# EAGLE library part MAX197 (library ic)
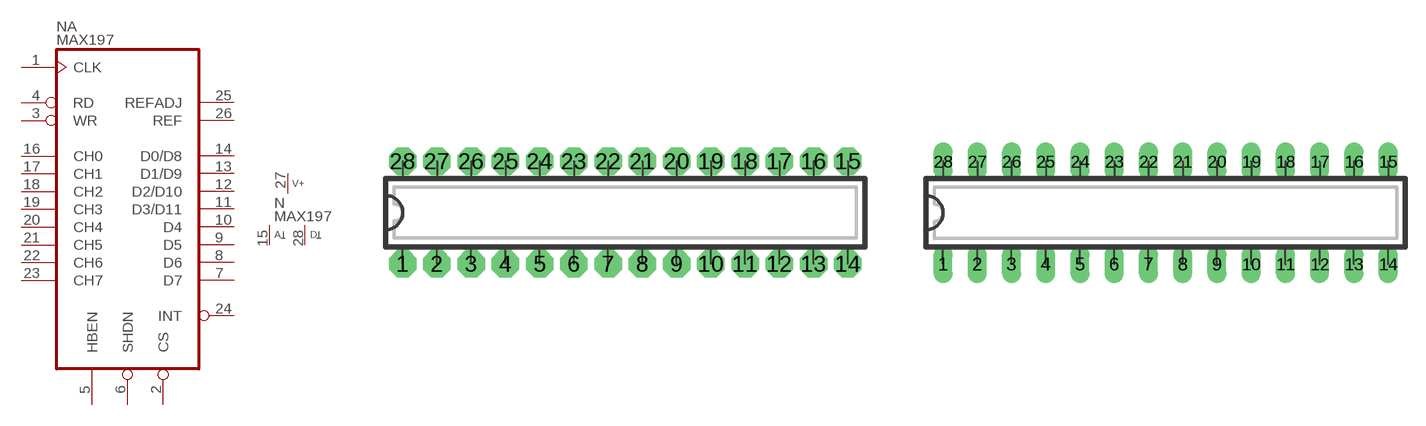
[diagram p39: symbol with the pads of DIP28N; footprints DIP28N, DIP28L]

Designator prefix N; gates A=MAX197 P=V+2GND2

## MAX197N  [DIP28N]
1  A:CLK  in
2  A:CS  in
3  A:WR  in
4  A:RD  in
5  A:HBEN  in
6  A:SHDN  in
7  A:D7  hiz
8  A:D6  hiz
9  A:D5  hiz
10  A:D4  hiz
11  A:D3/D11  hiz
12  A:D2/D10  hiz
13  A:D1/D9  hiz
14  A:D0/D8  hiz
15  P:AGND  pwr
16  A:CH0  in
17  A:CH1  in
18  A:CH2  in
19  A:CH3  in
20  A:CH4  in
21  A:CH5  in
22  A:CH6  in
23  A:CH7  in
24  A:INT  out
25  A:REFADJ  in
26  A:REF  out
27  P:V+  pwr
28  P:DGND  pwr

## MAX197  [DIP28L]
Pads as for DIP28N

## MAX197L  [DIP28L]
Pads as for DIP28N

## MAX197R  [DIP28R]
Pads as for DIP28N

## Footprint DIP28N (pad centres in mm)
DIP-28 IC package, 28 pins, 0.3" width
drill 0.813 pad 2.032 octagon: 1 -16.51,-3.81; 2 -13.97,-3.81; 3 -11.43,-3.81; 4 -8.89,-3.81; 5 -6.35,-3.81; 6 -3.81,-3.81; 7 -1.27,-3.81; 8 1.27,-3.81; 9 3.81,-3.81; 10 6.35,-3.81; 11 8.89,-3.81; 12 11.43,-3.81; 13 13.97,-3.81; 14 16.51,-3.81; 15 16.51,3.81; 16 13.97,3.81; 17 11.43,3.81; 18 8.89,3.81; 19 6.35,3.81; 20 3.81,3.81; 21 1.27,3.81; 22 -1.27,3.81; 23 -3.81,3.81; 24 -6.35,3.81; 25 -8.89,3.81; 26 -11.43,3.81; 27 -13.97,3.81; 28 -16.51,3.81

## Footprint DIP28L (pad centres in mm)
DIP-28, long pads IC package, 28 pins, 0.3" width
drill 0.813 pad 1.397 long: 1 -16.51,-3.81; 2 -13.97,-3.81; 3 -11.43,-3.81; 4 -8.89,-3.81; 5 -6.35,-3.81; 6 -3.81,-3.81; 7 -1.27,-3.81; 8 1.27,-3.81; 9 3.81,-3.81; 10 6.35,-3.81; 11 8.89,-3.81; 12 11.43,-3.81; 13 13.97,-3.81; 14 16.51,-3.81; 15 16.51,3.81; 16 13.97,3.81; 17 11.43,3.81; 18 8.89,3.81; 19 6.35,3.81; 20 3.81,3.81; 21 1.27,3.81; 22 -1.27,3.81; 23 -3.81,3.81; 24 -6.35,3.81; 25 -8.89,3.81; 26 -11.43,3.81; 27 -13.97,3.81; 28 -16.51,3.81

## Footprint DIP28R (pad centres in mm)
DIP-28, reduced pads IC package, 28 pins, 0.3" width
drill 0.813 pad 1.397 square: 1 -16.51,-3.81; 2 -13.97,-3.81; 3 -11.43,-3.81; 4 -8.89,-3.81; 5 -6.35,-3.81; 6 -3.81,-3.81; 7 -1.27,-3.81; 8 1.27,-3.81; 9 3.81,-3.81; 10 6.35,-3.81; 11 8.89,-3.81; 12 11.43,-3.81; 13 13.97,-3.81; 14 16.51,-3.81; 15 16.51,3.81; 16 13.97,3.81; 17 11.43,3.81; 18 8.89,3.81; 19 6.35,3.81; 20 3.81,3.81; 21 1.27,3.81; 22 -1.27,3.81; 23 -3.81,3.81; 24 -6.35,3.81; 25 -8.89,3.81; 26 -11.43,3.81; 27 -13.97,3.81; 28 -16.51,3.81